# Altium footprint library GCJ188R71H102KA01D.PcbLib: 3 footprints
Each footprint in its own frame and in the unit in brackets; x right, y up, seen from the top. Pads: shape width x height; smd on the part's side, far side on the other; paste and mask are expansions set on the pad; w line width, h text height; cw(c..) or ccw(c..) is an arc to the next point about the centre after c.
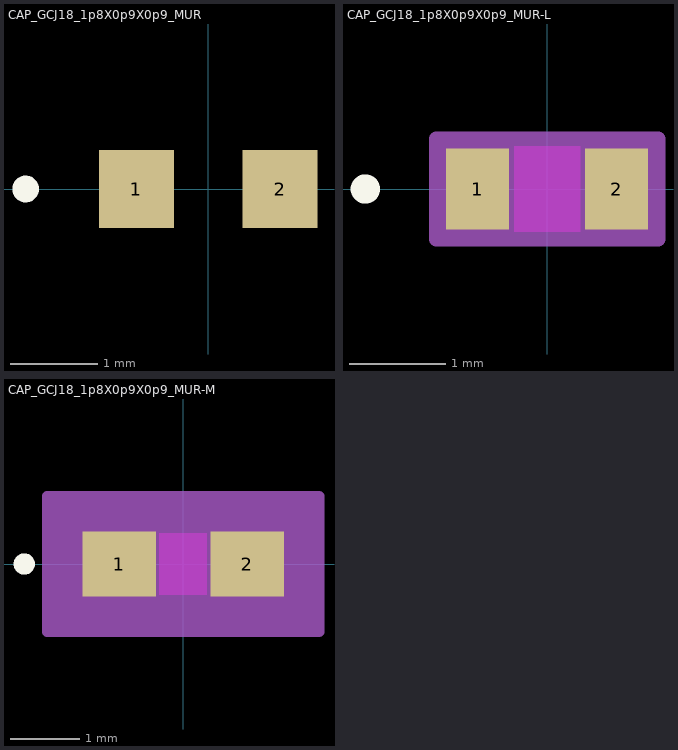
[diagram p0: the footprints below, top view; thin cyan lines are the x and y axes]

## CAP_GCJ18_1p8X0p9X0p9_MUR [mil]
pads (2):
  rect 33.78x35 smd paste+0 mask+0: 1(-32.39,0) 2(32.39,0)
Top Overlay:
  circle w6: c-82.28,0 r3
  text ".Designator" at -137.5,-25 h50

## CAP_GCJ18_1p8X0p9X0p9_MUR-L [mil]
pads (2):
  rect 25.91x33.03 smd paste+0 mask+0: 1(-28.45,0) 2(28.45,0)
Top Layer keep-out:
  region: -13.5,-15.5 -13.5,15.5 13.5,15.5 13.5,-15.5
Top Overlay:
  circle w6: c-74.41,0 r3
  text ".Designator" at -137.5,-25 h50
Keep-Out Layer:
  region: -13.5,-17.5 -13.5,17.5 13.5,17.5 13.5,-17.5
Mechanical 13:
  circle w1: c-23.45,0 r3
  lines w1: -35.5,-17.5 -35.5,17.5 ; -35.5,-17.5 -15.5,-17.5 -15.5,17.5 -35.5,17.5 ; -35.5,-17.5 35.5,-17.5 ; -35.5,-17.5 -35.5,17.5 ; -35.5,17.5 35.5,17.5 ; 35.5,-17.5 15.5,-17.5 15.5,17.5 35.5,17.5 ; 35.5,-17.5 35.5,17.5 ; 35.5,-17.5 35.5,17.5
  text ".Designator" at -137.5,-25 h50
Mechanical 15:
  region: 45.41,-20.52 -45.41,-20.52 -45.41,20.52 45.41,20.52
  lines w6: -45.41,-20.52 -45.41,20.52 45.41,20.52 45.41,-20.52 -45.41,-20.52
3D body "CAP_GCJ18_1p8X0p9X0p9_MUR.step": height 35, standoff 0, extent -35.51,-17.48 35.51,17.48

## CAP_GCJ18_1p8X0p9X0p9_MUR-M [mil]
pads (2):
  rect 41.65x36.97 smd paste+0 mask+0: 1(-36.33,0) 2(36.33,0)
Top Layer keep-out:
  region: -13.5,-15.5 -13.5,15.5 13.5,15.5 13.5,-15.5
Top Overlay:
  circle w6: c-90.15,0 r3
  text ".Designator" at -137.5,-25 h50
Keep-Out Layer:
  region: -13.5,-17.5 -13.5,17.5 13.5,17.5 13.5,-17.5
Mechanical 13:
  circle w1: c-31.33,0 r3
  lines w1: -35.5,-17.5 -35.5,17.5 ; -35.5,-17.5 -15.5,-17.5 -15.5,17.5 -35.5,17.5 ; -35.5,-17.5 35.5,-17.5 ; -35.5,-17.5 -35.5,17.5 ; -35.5,17.5 35.5,17.5 ; 35.5,-17.5 15.5,-17.5 15.5,17.5 35.5,17.5 ; 35.5,-17.5 35.5,17.5 ; 35.5,-17.5 35.5,17.5
  text ".Designator" at -137.5,-25 h50
Mechanical 15:
  region: 77.15,-38.48 -77.15,-38.48 -77.15,38.48 77.15,38.48
  lines w6: -77.15,-38.48 -77.15,38.48 77.15,38.48 77.15,-38.48 -77.15,-38.48
3D body "CAP_GCJ18_1p8X0p9X0p9_MUR.step": height 35, standoff 0, extent -35.51,-17.48 35.51,17.48